# EAGLE library part L298 (library MinotaurParts)
H bridge motor driver
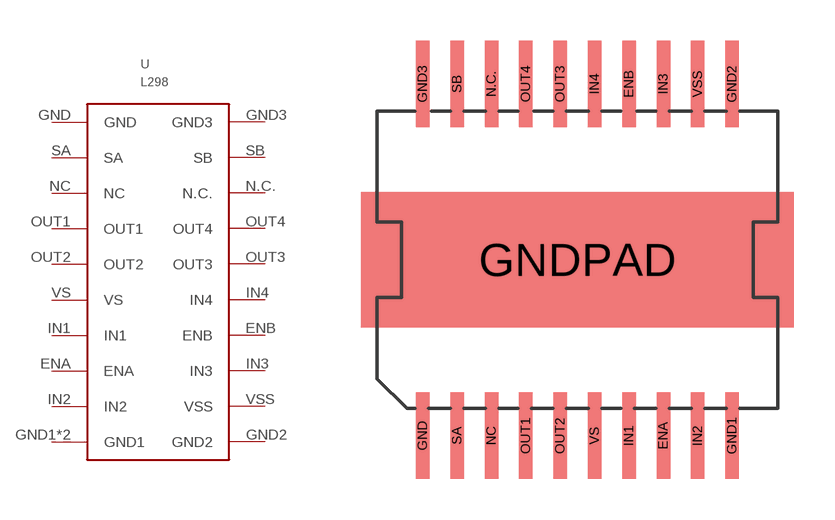
[diagram p1: symbol with the pads of L298; footprint L298]

Designator prefix -

## L298  [L298]
ENA  ENA
ENB  ENB
GND  GND
GND1  GND1
GND2  GND2
GND3  GND3
GNDPAD  GND1
IN1  IN1
IN2  IN2
IN3  IN3
IN4  IN4
N.C.  N.C.
NC  NC
OUT1  OUT1
OUT2  OUT2
OUT3  OUT3
OUT4  OUT4
SA  SA
SB  SB
VS  VS
VSS  VSS

## Footprint L298 (pad centres in mm)
smd 0.5 x 3.2: ENA 3.175,-6.5; ENB 1.905,6.5; GND -5.715,-6.5; GND1 5.715,-6.5; GND2 5.715,6.5; GND3 -5.715,6.5; IN1 1.905,-6.5; IN2 4.445,-6.5; IN3 3.175,6.5; IN4 0.635,6.5; N.C. -3.175,6.5; NC -3.175,-6.5; OUT1 -1.905,-6.5; OUT2 -0.635,-6.5; OUT3 -0.635,6.5; OUT4 -1.905,6.5; SA -4.445,-6.5; SB -4.445,6.5; VS 0.635,-6.5; VSS 4.445,6.5
smd 16 x 5: GNDPAD 0,0